# Altium schematic symbol library Esquemas.SchLib: 37 symbols
Pins are listed as number, name and electrical type; pins without a type are passive.

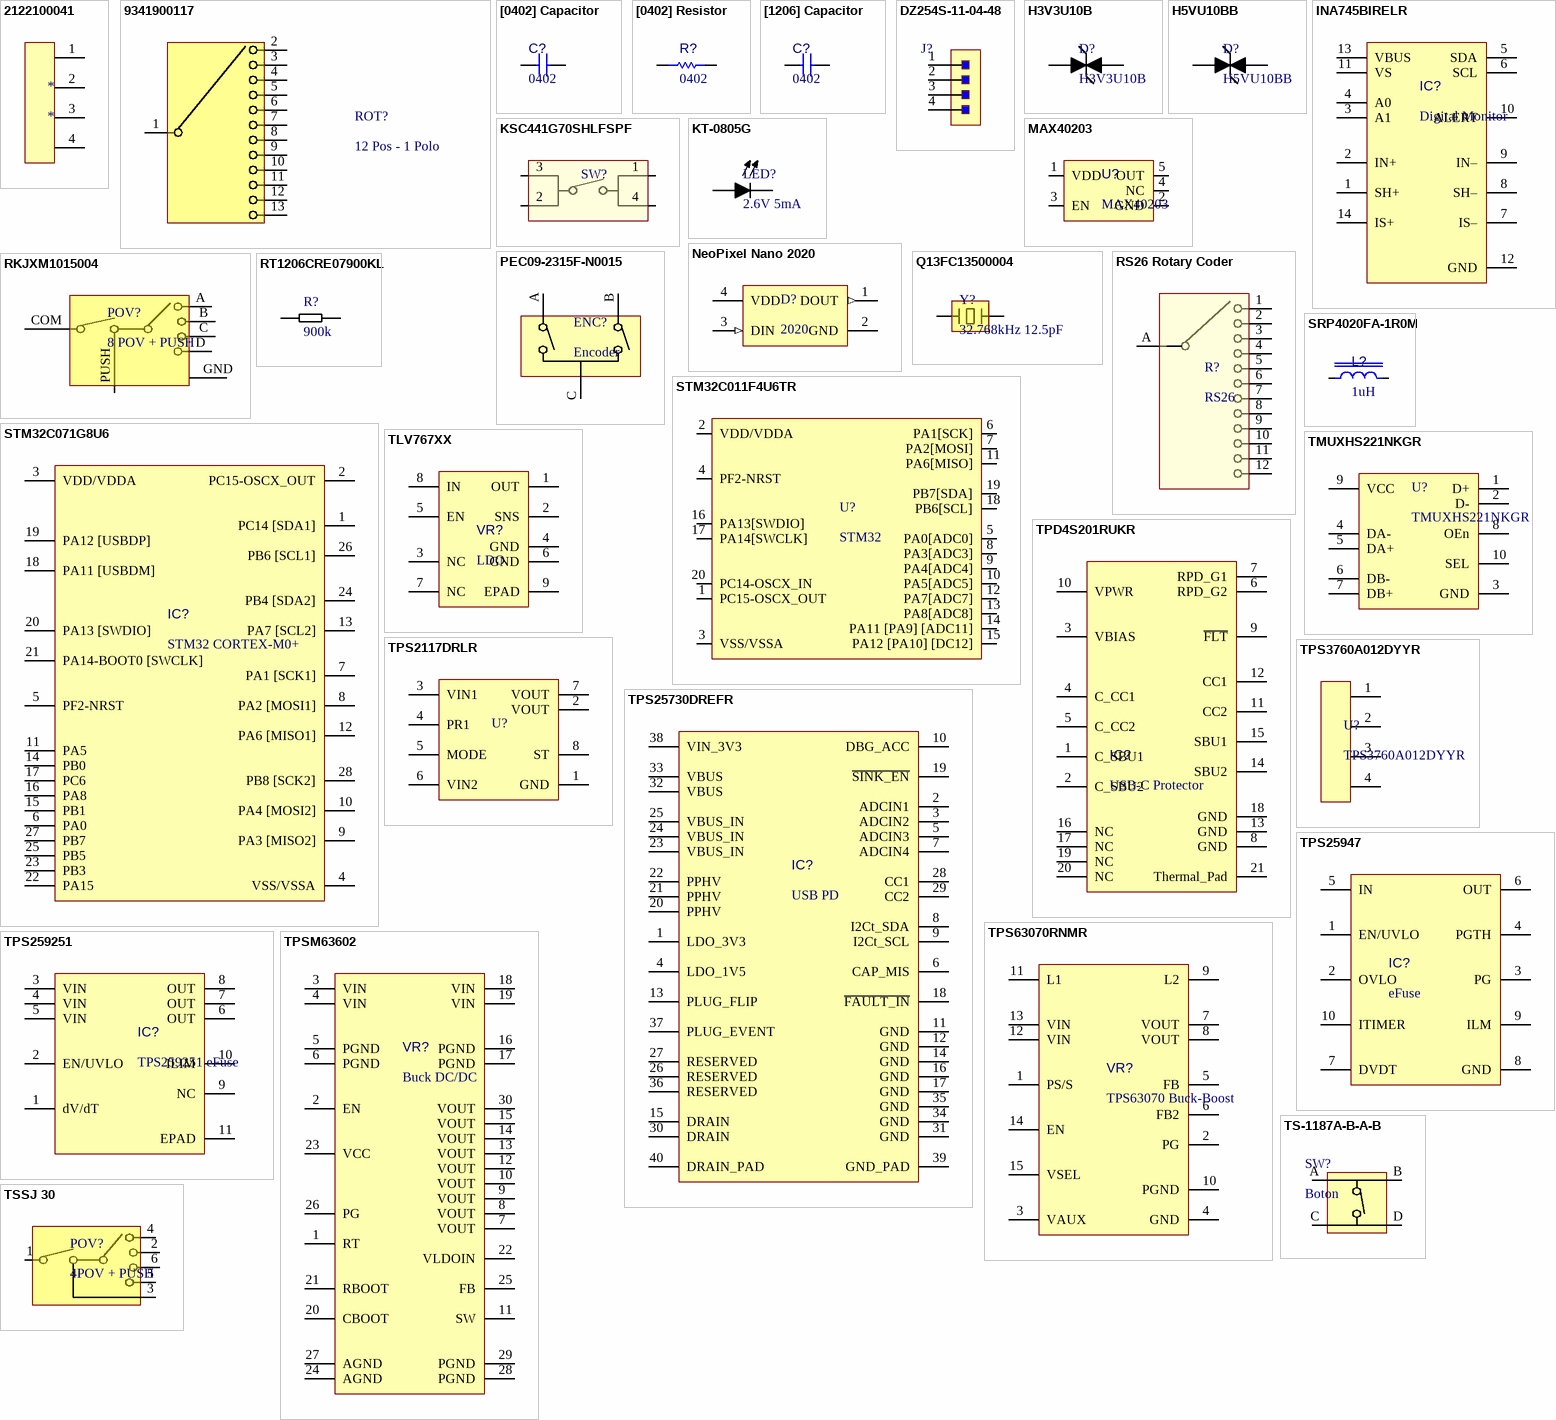
[diagram p0: symbols 2122100041 to TSSJ 30]

## 2122100041
designator *
footprint 2122100041 (Molex Connector)
pins: 1, 2, 3, 4

## 9341900117
designator ROT?, comment 12 Pos - 1 Polo
Interruptores rotativos 12 posiciones SP12T 130mA (CA/CC) 150 VCA Orificio pasante
footprint 9341900117 (Interruptores rotativos 12 posiciones SP12T 130mA (CA/CC) 150 VCA Orificio pasante)
pins: 1 5, 2 5, 3 5, 4 5, 5, 6 5, 7 5, 8 5, 9 5, 10 5, 11 5, 12 5, 13 5

## [0402] Capacitor
designator C?, comment 0402
[0402] SMD Capacitor
footprint [0402] SMD Capacitor (Chip Capacitor, 2-Leads, Body 1.00x0.50mm, IPC Low Density)
pins: 1 0, 2 0

## [0402] Resistor
designator R?, comment 0402
0402 SMD Resistor
footprint [0402] SMD Resistor (Chip Resistor, 2-Leads, Body 1.00x0.50mm, IPC Low Density)
pins: 1 0, 2 0

## [1206] Capacitor
designator C?, comment 0402
[0402] SMD Capacitor
footprint [1206] SMD Capacitor (Chip Capacitor, 2-Leads, Body 3.20x1.60mm, IPC Medium Density)
pins: 1 0, 2 0

## DZ254S-11-04-48
designator J?, comment Pin Header  (value not drawn)
1x4 (4P) Pin Header Male SMD
footprint DZ254S-11-04-48 (1x4 Pin Header)
pins: 1, 2, 3, 4

## H3V3U10B
designator D?
Bi-directional 3.3V Ultra Small Capacitance
footprint H3V3U10B (DFN1006-2L)
pins: 1 COM, 2

## H5VU10BB
designator D?
Bi-directional 5V Ultra Small Capacitance ESD
footprint H3V3U10B (DFN1006-2L)
pins: 1 COM, 2

## INA745BIRELR
designator IC?, comment Digital Monitor
Current Monitor Regulator High/Low-Side 35A 14-VQFN (5x3); Supplier 1: DigiKey; Supplier Part Number 1: 296-INA745BIRELRCT-ND
footprint INA745BIRELR (Current Monitor Regulator High/Low-Side 35A 14-VQFN (5x3))
pins: 1 SH+, 2 IN+, 3 A1, 4 A0, 5 SDA, 6 SCL, 7 IS–, 8 SH–, 9 IN–, 10 ALERT, 11 VS, 12 GND, 13 VBUS, 14 IS+

## KSC441G70SHLFSPF
designator SW?  (value not drawn)
Switch Tactile N.O. SPST Button 1VA 32VDC 50mA 4N Gull Wing SMD T/R; Manufacturer: C&K Components; Manufacturer Part Number: KSC441G70SHLFSPF; Supplier: DigiKey; Supplier Part Number: CKN11980CT-ND; RoHS: Compliant; Category: Tactile Switches; Stock: 1; Pricing: 1=1.04, 10=0.887, 25=0.8248, 100=0.7353, 250=0.6812, 500=0.64368 (USD); Contact Current Rating: 50mA; Operating Force: 4N; ComponentLink1URL: https://datasheet.octopart.com:443/KSC441G70SHLFSPF-C%26K-Components-datasheet-128529453.pdf?src-supplier=Electro+Sonic; ComponentLink1Description: https://datasheet.octopart.com:443/KSC441G70SHLFSPF-C%26K-Components-datasheet-128529453.pdf?src-supplier=Electro+Sonic; ComponentLink2URL: https://datasheet.octopart.com:443/KSC441G70SHLFSPF-C%26K-Components-datasheet-100062959.pdf?src-supplier=Future+Electronics; ComponentLink2Description: https://datasheet.octopart.com:443/KSC441G70SHLFSPF-C%26K-Components-datasheet-100062959.pdf?src-supplier=Future+Electronics; Supplier 1: DigiKey; Supplier Part Number 1: CKN11980CT-ND
footprint KSC441G 70SH LFS PF
pins: 1 0, 2 1, 3 2, 4 3

## KT-0805G
designator LED?, comment 2.6V 5mA
Emerald Green 525nm LED Indication - Discrete 2.6V~3.1V 0805
footprint KT-0805G (Emerald Green 525nm LED Indication - Discrete 2.6V~3.1V 0805)
pins: 1 16, 2 17

## MAX40203
designator U?
Supplier 1: Farnell; Supplier Part Number 1: 3225386
footprint MAX40203AUK+T (SOT23, 5-Leads, Body 2.90x2.80mm, Pitch 0.95mm, IPC Medium Density)
pins: 1 VDD, 2 GND, 3 EN, 4 NC, 5 OUT

## NeoPixel Nano 2020
designator D?, comment 2020
Adafruit Accessories NeoPixel Nano 2020 RGB LEDs WS2812B; Supplier 1: DigiKey; Supplier Part Number 1: 1528-4684-ND
footprint Adafruit 4684 (WS2812B)
pins: 1 DOUT (out), 2 GND, 3 DIN (in), 4 VDD

## PEC09-2315F-N0015
designator ENC?, comment Encoder
PEC09 PC Pin Quadrature (Incremental) 12 Mechanical Encoder 11.4mm 70C; Manufacturer: Bourns; Manufacturer Part Number: PEC09-2315F-N0015; Built in Switch: No; Detent: Yes; Number of Circuits: 1; Output Type: Incremental, Quadrature; Pulses per Revolution: 12; Supplier: DigiKey; Supplier Part Number: 118-PEC09-2315F-N0015-ND; RoHS: Compliant; Category: Encoders; Stock: 1221; Pricing: 1=2.47, 10=2.078, 25=1.9392, 50=1.8398, 100=1.745, 300=1.60387, 500=1.54196, 1000=1.46156, 5000=1.29003 (USD); Country of Origin: Taiwan; Encoder Type: Mechanical; Introduction Date: 2010-10-15; Lifecycle Status: Production; Max Operating Temperature: 70°C; Min Operating Temperature: -10°C; Mounting Technology: PCB, Panel, Through Hole; Orientation: Right Angle; REACH SVHC: Yes; Schedule B: 8543709655; Termination: PC Pin; Width: 9.7mm; ComponentLink1URL: https://datasheet.octopart.com:443/PEC09-2315F-N0015-Bourns-datasheet-179971531.pdf?src-supplier=IHS; ComponentLink1Description: https://datasheet.octopart.com:443/PEC09-2315F-N0015-Bourns-datasheet-179971531.pdf?src-supplier=IHS; ComponentLink2URL: https://datasheet.octopart.com:443/PEC09-2315F-N0015-Bourns-datasheet-67810299.pdf?src-supplier=JRH+Electronics; ComponentLink2Description: https://datasheet.octopart.com:443/PEC09-2315F-N0015-Bourns-datasheet-67810299.pdf?src-supplier=JRH+Electronics; ComponentLink3URL: https://datasheet.octopart.com:443/PEC09-2315F-N0015-Bourns-datasheet-177040331.pdf?src-supplier=Burklin+Elektronik; ComponentLink3Description: https://datasheet.octopart.com:443/PEC09-2315F-N0015-Bourns-datasheet-177040331.pdf?src-supplier=Burklin+Elektronik; ComponentLink4URL: https://datasheet.octopart.com/PEC09-2315F-N0015-Bourns-datasheet-10938969.pdf; ComponentLink4Description: https://datasheet.octopart.com/PEC09-2315F-N0015-Bourns-datasheet-10938969.pdf; ComponentLink5URL: http://sigma.octopart.com:80/conflict_mineral_statement/Bourns-company-36.pdf?src-supplier=Compliance+Statements; ComponentLink5Description: http://sigma.octopart.com:80/conflict_mineral_statement/Bourns-company-36.pdf?src-supplier=Compliance+Statements
footprint PEC09-2315F-N0015 (Codificador giratorio Mecánico 15 Cuadratura (por pasos) Ángulo recto)
pins: A COM, B COM, C COM

## Q13FC13500004
designator Y?, comment 32.768kHz 12.5pF
Passive Crystal Oscillators 32.768KHz ±20ppm 12.5pF 70kΩ SMD3215-2P SMT -40℃~+85℃; Manufacturer: Epson; Manufacturer Part Number: Q13FC13500004; Accuracy: 0.002%; Supplier: Farnell; Supplier Part Number: 1278036; RoHS: Compliant; Category: Crystals; Stock: 40157; Pricing: 1=1.64, 10=1.6, 50=1.57, 200=1.54, 500=1.51 (EUR); Case/Package: SMD/SMT; Frequency: 32.768kHz; Frequency Tolerance: 0.002%; Load Capacitance: 12.5pF; Max Operating Temperature: 85°C; Min Operating Temperature: -40°C; Mounting Technology: Surface Mount; Pins: 2; Packaging: Cut Tape; REACH SVHC: Unknown; ComponentLink1URL: https://datasheet.octopart.com:443/Q13FC13500004-Epson-datasheet-32025749.pdf?src-supplier=Newark; ComponentLink1Description: https://datasheet.octopart.com:443/Q13FC13500004-Epson-datasheet-32025749.pdf?src-supplier=Newark; ComponentLink2URL: https://datasheet.octopart.com:443/Q13FC13500004-Epson-datasheet-14705583.pdf?src-supplier=Newark; ComponentLink2Description: https://datasheet.octopart.com:443/Q13FC13500004-Epson-datasheet-14705583.pdf?src-supplier=Newark; ComponentLink3URL: https://datasheet.octopart.com:443/Q13FC13500004-Epson-datasheet-62043850.pdf?src-supplier=Farnell; ComponentLink3Description: https://datasheet.octopart.com:443/Q13FC13500004-Epson-datasheet-62043850.pdf?src-supplier=Farnell
footprint Q13FC13500004 (12.5pF 32.768kHz)
pins: 1 18, 2 19

## RKJXM1015004
designator POV?, comment 8 POV + PUSH
8-directional Stick Switch (with Center-push Function) RKJXM Series
footprint RKJXM1015004 (8-directional Stick Switch (with Center-push Function) RKJXM Series)
pins: A DIRA, B DIRB, C DIRC, COM, D DIRD, GND, PUSH

## RS26 Rotary Coder
designator R?, comment RS26
RS26 Rotary Type Band Switch Position Switch
footprint RS26
pins: 1 A, 2 A, 3 A, 4 A, 5 A, 6 A, 7 A, 8 A, 9 A, 10 A, 11 A, 12 A, A

## RT1206CRE07900KL
designator R?, comment 900k
900k Resistor 200V 1206 0.5%; Supplier 1: DigiKey; Supplier Part Number 1: 13-RT1206CRE07900KLCT-ND
footprint RES 1206 (SMD Resistor 1206)
pins: 1, 2

## SRP4020FA-1R0M
designator L?, comment 1uH
Inductor 1UH 11A 11.7 MOHM SMD
footprint SRP4020FA-1R0M (FIXED IND 1UH 11A 11.7 MOHM SMD)
pins: 1, 2

## STM32C011F4U6TR
designator U?, comment STM32
RISC Microcontroller, 32-Bit, FLASH, CORTEX-M4F CPU, 180MHz, CMOS, PBGA216; Manufacturer: STMicroelectronics; Manufacturer Part Number: STM32C011F4U6TR; ADC Channels (Resolution): 13-Ch 12-Bit; EEPROM Memory Size: 0B; Interface: I2C, I2S, SPI; Clock Frequency: 48MHz; Max Supply Current: 4.1mA; Max Supply Voltage: 3.6V; Min Supply Voltage: 3V; Number of I/Os: 2; Number of Interrupts: 18; Number of Timers/Counters: 9; Peripherals: POR, PWM; RAM Size: 6kB; Supplier: RS; Supplier Part Number: 2615536P; RoHS: Compliant; Category: Microcontrollers; Stock: 2852; Pricing: 2=0.73 (EUR); China RoHS: Compliant; Country of Origin: Mainland China, Philippines, Taiwan; Export Control Classification Number (ECCN) Code: 3A991.A.2; Height - Seated (Max): 600µm; Harmonized Tariff Schedule (HTS) Code: 8542.31.00.25; Introduction Date: 2023-01-06; Length: 3mm; Lifecycle Status: Production; Max Operating Temperature: 85°C; Memory Format: FLASH; Min Operating Temperature: -40°C; Number of Terminals: 20; Operating Supply Voltage: 3V; REACH SVHC: Yes; Terminal Pitch: 500µm; Width: 3mm; ComponentLink1URL: https://datasheet.octopart.com:443/STM32C011F4U6TR-STMicroelectronics-datasheet-175903386.pdf?src-supplier=Future+Electronics; ComponentLink1Description: https://datasheet.octopart.com:443/STM32C011F4U6TR-STMicroelectronics-datasheet-175903386.pdf?src-supplier=Future+Electronics; Supplier 1: RS; Supplier Part Number 1: 2615536P
footprint STM32C011F4U6TR (PQFN, 20-Leads, Body 3.00x3.00mm, Pitch 0.50mm, IPC Medium Density)
pins: 1 PC15-OSCX_OUT, 2 VDD/VDDA (power), 3 VSS/VSSA (power), 4 PF2-NRST, 5 PA0[ADC0], 6 PA1[SCK], 7 PA2[MOSI], 8 PA3[ADC3], 9 PA4[ADC4], 10 PA5[ADC5], 11 PA6[MISO], 12 PA7[ADC7], 13 PA8[ADC8], 14 PA11 [PA9] [ADC11], 15 PA12 [PA10] [DC12], 16 PA13[SWDIO], 17 PA14[SWCLK], 18 PB6[SCL], 19 PB7[SDA], 20 PC14-OSCX_IN

## STM32C071G8U6
designator IC?, comment STM32 CORTEX-M0+
MAINSTREAM ARM CORTEX-M0+ MCU WI; Supplier 1: Arrow Electronics; Supplier Part Number 1: STM32C071G8U6
footprint STM32C071G8U6 (ARM® Cortex®-M0+ STM32C0 Microcontroller IC 32-Bit 48MHz 64KB (64K x 8) FLASH 28-UFQFPN (4x4))
pins: 1 PC14 [SDA1], 2 PC15-OSCX_OUT, 3 VDD/VDDA, 4 VSS/VSSA, 5 PF2-NRST, 6 PA0, 7 PA1 [SCK1], 8 PA2 [MOSI1], 9 PA3 [MISO2], 10 PA4 [MOSI2], 11 PA5, 12 PA6 [MISO1], 13 PA7 [SCL2], 14 PB0, 15 PB1, 16 PA8, 17 PC6, 18 PA11 [USBDM], 19 PA12 [USBDP], 20 PA13 [SWDIO], 21 PA14-BOOT0 [SWCLK], 22 PA15, 23 PB3, 24 PB4 [SDA2], 25 PB5, 26 PB6 [SCL1], 27 PB7, 28 PB8 [SCK2]

## TLV767XX
designator VR?, comment LDO
LDO IC REG LINEAR 3.3V 1A 8-HVSSOP
footprint TLV767
pins: 1 OUT, 2 SNS, 3 NC, 4 GND, 5 EN, 6 GND, 7 NC, 8 IN, 9 EPAD

## TMUXHS221NKGR
designator U?
USB 2.0 480-Mbps 2: 1 multiplexer and 1: 2 demultiplexer 10-UQFN -40 to 125; Manufacturer: Texas Instruments; Manufacturer Lifecycle Status: ACTIVE; Number of Channels: 2; Supplier: DigiKey; Supplier Part Number: 296-TMUXHS221NKGRCT-ND; Manufacturer Part Number: TMUXHS221NKGR; RoHS: Compliant; Category: Analog Switches and Multiplexers; Stock: 8358; Pricing: 1=0.69, 10=0.487, 25=0.4376, 100=0.3825, 250=0.35636, 500=0.34058, 1000=0.33507 (USD); Height: 0m; Length: 1.8mm; Lifecycle Status: Production; Pins: 10; Thickness: 450µm; Width: 1.4mm; ComponentLink1URL: https://octopart.com:443/opatz8j6/c1?t=yy8f16U1RaVyJzevDuJU09x-mYvQXO8Kqrm6JcMtgPoHzo19fH86UQI7Lu4Y-5OPzkEVgW5cZuFBPsxpb0JXvFbkdOwegFESpmsH6cXXLsil-TYfu3GKVPvJba9-r6E5IpqDcbrwiT7I5C7fcykZ2T1PNpaMFCK-tbBFV71T04D0HUJT6Ry0ebW3kBGnA28mmpzQCtRO5esTna_ClKBwBHeNovGdvj0CHUzZAifOj_by6hkR-EhHDqyHfgvsuGFjjxRECSGQ9ZOlxtYU5PIugKIjId5iaRYOt35eo4CWUAyPXSbXU95PzLI5Up0BkHu1xGqqwLBBaBlrE_jS0d4IFlhsonT6F6AzgfyzIqCfRZGoKyxcJaeJkiQ3Ijiv_VHKsRnbf89GHNA&src-supplier=Texas+Instruments; ComponentLink1Description: https://octopart.com:443/opatz8j6/c1?t=yy8f16U1RaVyJzevDuJU09x-mYvQXO8Kqrm6JcMtgPoHzo19fH86UQI7Lu4Y-5OPzkEVgW5cZuFBPsxpb0JXvFbkdOwegFESpmsH6cXXLsil-TYfu3GKVPvJba9-r6E5IpqDcbrwiT7I5C7fcykZ2T1PNpaMFCK-tbBFV71T04D0HUJT6Ry0ebW3kBGnA28mmpzQCtRO5esTna_ClKBwBHeNovGdvj0CHUzZAifOj_by6hkR-EhHDqyHfgvsuGFjjxRECSGQ9ZOlxtYU5PIugKIjId5iaRYOt35eo4CWUAyPXSbXU95PzLI5Up0BkHu1xGqqwLBBaBlrE_jS0d4IFlhsonT6F6AzgfyzIqCfRZGoKyxcJaeJkiQ3Ijiv_VHKsRnbf89GHNA&src-supplier=Texas+Instruments; ComponentLink2URL: http://sigma.octopart.com:80/reach_statement/Texas-Instruments-company-64.pdf?src-supplier=Compliance+Statements; ComponentLink2Description: http://sigma.octopart.com:80/reach_statement/Texas-Instruments-company-64.pdf?src-supplier=Compliance+Statements; ComponentLink3URL: http://sigma.octopart.com:80/conflict_mineral_statement/Texas-Instruments-company-63.pdf?src-supplier=Compliance+Statements; ComponentLink3Description: http://sigma.octopart.com:80/conflict_mineral_statement/Texas-Instruments-company-63.pdf?src-supplier=Compliance+Statements; Supplier 1: DigiKey; Supplier Part Number 1: 296-TMUXHS221NKGRCT-ND
footprint TMUXHS221NKGR
pins: 1 D+, 2 D-, 3 GND, 4 DA-, 5 DA+, 6 DB-, 7 DB+, 8 OEn, 9 VCC, 10 SEL

## TPD4S201RUKR
designator IC?, comment USB-C Protector
Overvoltage/Surge Protection IC Internal Switch 20-WQFN (3x3); Supplier 1: DigiKey; Supplier Part Number 1: 296-TPD4S201RUKRCT-ND
footprint TPD4S201RUKR (WQFN - 0.8 mm max height)
pins: 1 C_SBU1, 2 C_SBU2, 3 VBIAS, 4 C_CC1, 5 C_CC2, 6 RPD_G2, 7 RPD_G1, 8 GND, 9 ~{FLT}, 10 VPWR, 11 CC2, 12 CC1, 13 GND, 14 SBU2, 15 SBU1, 16 NC, 17 NC, 18 GND, 19 NC, 20 NC, 21 Thermal_Pad

## TPS2117DRLR
designator U?  (value not drawn)
Power Switch ICs - Power Distribution 1.6-V to 5.5-V 20-m ? 4-A low IQ power; Supplier 1: DigiKey; Supplier Part Number 1: 296-TPS2117DRLRCT-ND
footprint TPS2117DRLR
pins: 1 GND, 2 VOUT, 3 VIN1, 4 PR1, 5 MODE, 6 VIN2, 7 VOUT, 8 ST

## TPS3760A012DYYR
designator U?
65-V overvoltage or undervoltage supervisor with sense, ultra-low quiescent current and delay 14-SOT-23-THIN -40 to 125; Manufacturer: Texas Instruments; Manufacturer Lifecycle Status: ACTIVE; Number of Channels: 1; Supplier: DigiKey; Supplier Part Number: 296-TPS3760A012DYYRCT-ND; Manufacturer Part Number: TPS3760A012DYYR; RoHS: Compliant; Category: Voltage Supervisors; Stock: 2540; Pricing: 1=2.04, 10=1.505, 25=1.372, 100=1.2249, 250=1.15488, 500=1.11264, 1000=1.07789 (USD); Height: 1.1mm; Length: 4.2mm; Lifecycle Status: Production; Pins: 14; Thickness: 950µm; Width: 2mm; ComponentLink1URL: https://sigma.octopart.com:443/182665539/technical_drawing/Texas-Instruments-TPS3760A012DYYR.pdf?src-supplier=Texas+Instruments; ComponentLink1Description: https://sigma.octopart.com:443/182665539/technical_drawing/Texas-Instruments-TPS3760A012DYYR.pdf?src-supplier=Texas+Instruments; ComponentLink2URL: https://octopart.com:443/opatz8j6/c1?t=bBFzi-bAgYeeIbIGZY4bYo_XbKFLrftSZeSbSotmTGgeyb1wDWlOowMhYIBvvx_NPYX33-vt174hjkc8pfZzGNZGzFTq0YZyBSTQiA9lvi1W1HQ8nU6AmnP_TUSFLSTahk-tJzU8CdGWSkZK8qp8JmsNy5ER1-k-XC_2OPCMbioe_4G39Qd6I0xxDegcqopCW8QpALGavVkLc82cd8sYUA-iojPAUqVw9w0rlJqrUIe6-T8I7E8WsKTax3oIpMJvJ5fyacIK7iiYxL8B1qJRHrXurpGsB0OkwsYmBfFN4tStetN7tc0ldO4LktvQnzqEcQLX9ULkaLtYPC4yhwxv331PFsCLzXqIEQLZ4t7P-cKiw5Xsx_ZWYPfYUWK1o67pue7ZZrUx&src-supplier=Texas+Instruments; ComponentLink2Description: https://octopart.com:443/opatz8j6/c1?t=bBFzi-bAgYeeIbIGZY4bYo_XbKFLrftSZeSbSotmTGgeyb1wDWlOowMhYIBvvx_NPYX33-vt174hjkc8pfZzGNZGzFTq0YZyBSTQiA9lvi1W1HQ8nU6AmnP_TUSFLSTahk-tJzU8CdGWSkZK8qp8JmsNy5ER1-k-XC_2OPCMbioe_4G39Qd6I0xxDegcqopCW8QpALGavVkLc82cd8sYUA-iojPAUqVw9w0rlJqrUIe6-T8I7E8WsKTax3oIpMJvJ5fyacIK7iiYxL8B1qJRHrXurpGsB0OkwsYmBfFN4tStetN7tc0ldO4LktvQnzqEcQLX9ULkaLtYPC4yhwxv331PFsCLzXqIEQLZ4t7P-cKiw5Xsx_ZWYPfYUWK1o67pue7ZZrUx&src-supplier=Texas+Instruments; ComponentLink3URL: https://sigma.octopart.com:443/178868997/technical_drawing/Texas-Instruments-TPS3760A012DYYR.pdf?src-supplier=Texas+Instruments; ComponentLink3Description: https://sigma.octopart.com:443/178868997/technical_drawing/Texas-Instruments-TPS3760A012DYYR.pdf?src-supplier=Texas+Instruments; ComponentLink4URL: https://sigma.octopart.com:443/155892991/technical_drawing/Texas-Instruments-TPS3760A012DYYR.pdf?src-supplier=Texas+Instruments; ComponentLink4Description: https://sigma.octopart.com:443/155892991/technical_drawing/Texas-Instruments-TPS3760A012DYYR.pdf?src-supplier=Texas+Instruments; ComponentLink5URL: https://datasheet.octopart.com:443/TPS3760A012DYYR-Texas-Instruments-datasheet-165812064.pdf?src-supplier=Augswan; ComponentLink5Description: https://datasheet.octopart.com:443/TPS3760A012DYYR-Texas-Instruments-datasheet-165812064.pdf?src-supplier=Augswan; ComponentLink6URL: http://sigma.octopart.com:80/reach_statement/Texas-Instruments-company-64.pdf?src-supplier=Compliance+Statements; ComponentLink6Description: http://sigma.octopart.com:80/reach_statement/Texas-Instruments-company-64.pdf?src-supplier=Compliance+Statements; ComponentLink7URL: http://sigma.octopart.com:80/conflict_mineral_statement/Texas-Instruments-company-63.pdf?src-supplier=Compliance+Statements; ComponentLink7Description: http://sigma.octopart.com:80/conflict_mineral_statement/Texas-Instruments-company-63.pdf?src-supplier=Compliance+Statements; Supplier 1: DigiKey; Supplier Part Number 1: 296-TPS3760A012DYYRCT-ND
pins: 1, 2, 3, 4

## TPS25730DREFR
designator IC?, comment USB PD
USB, Type-C Controller PMIC 38-WQFN (4x6); Supplier 1: DigiKey; Supplier Part Number 1: 296-TPS25730DREFRCT-ND
footprint TPS25730DREFR (USB, Type-C Controller PMIC 38-WQFN (4x6))
pins: 1 LDO_3V3, 2 ADCIN1, 3 ADCIN2, 4 LDO_1V5, 5 ADCIN3, 6 CAP_MIS, 7 ADCIN4, 8 I2Ct_SDA, 9 I2Ct_SCL, 10 DBG_ACC, 11 GND, 12 GND, 13 PLUG_FLIP, 14 GND, 15 DRAIN, 16 GND, 17 GND, 18 ~{FAULT_IN}, 19 ~{SINK_EN}, 20 PPHV, 21 PPHV, 22 PPHV, 23 VBUS_IN, 24 VBUS_IN, 25 VBUS_IN, 26 RESERVED, 27 RESERVED, 28 CC1, 29 CC2, 30 DRAIN, 31 GND, 32 VBUS, 33 VBUS, 34 GND, 35 GND, 36 RESERVED, 37 PLUG_EVENT, 38 VIN_3V3, 39 GND_PAD, 40 DRAIN_PAD

## TPS25947
designator IC?, comment eFuse
eFuse de 5.5 A, 2.7 V a 23 V, 28 mΩ, con protección de polaridad inversa integrada; Supplier 1: DigiKey; Supplier Part Number 1: 296-TPS259472ARPWRCT-ND
footprint TPS25947
pins: 1 EN/UVLO, 2 OVLO, 3 PG, 4 PGTH, 5 IN, 6 OUT, 7 DVDT, 8 GND, 9 ILM, 10 ITIMER

## TPS63070RNMR
designator VR?, comment TPS63070 Buck-Boost
IC REG BUCK BOOST ADJ 2A 15VQFN; Supplier 1: DigiKey; Supplier Part Number 1: 296-44874-1-ND
footprint TPS63070 (TPS63070RNMR)
pins: 1 PS/S, 2 PG, 3 VAUX, 4 GND, 5 FB, 6 FB2, 7 VOUT, 8 VOUT, 9 L2, 10 PGND, 11 L1, 12 VIN, 13 VIN, 14 EN, 15 VSEL

## TPS259251
designator IC?, comment TPS259251 eFuse
eFuse 5V/12V Protection Switches; Supplier 1: DigiKey; Supplier Part Number 1: 296-47233-1-ND
footprint TPS259251
pins: 1 dV/dT, 2 EN/UVLO, 3 VIN, 4 VIN, 5 VIN, 6 OUT, 7 OUT, 8 OUT, 9 NC, 10 ILIM, 11 EPAD

## TPSM63602
designator VR?, comment Buck DC/DC
Non-Isolated PoL Module DC DC Converter 1 Output 3.3V 2A 3V - 36V Input
footprint TPSM63602_1
pins: 1 RT, 2 EN, 3 VIN, 4 VIN, 5 PGND, 6 PGND, 7 VOUT, 8 VOUT, 9 VOUT, 10 VOUT, 11 SW, 12 VOUT, 13 VOUT, 14 VOUT, 15 VOUT, 16 PGND, 17 PGND, 18 VIN, 19 VIN, 20 CBOOT, 21 RBOOT, 22 VLDOIN, 23 VCC, 24 AGND, 25 FB, 26 PG, 27 AGND, 28 PGND, 29 PGND, 30 VOUT

## TS-1187A-B-A-B
designator SW?, comment Boton
Boton SMD
footprint TS-1187A-B-A-B (Boton SMD)
pins: A, B, C, D

## TSSJ 30
designator POV?, comment 4POV + PUSH
SWITCH NAVIGATION 20MA 15V
footprint TSSJ 30 (SWITCH NAVIGATION 20MA 15V)
pins: 1 COM, 2 DIRB, 3 4, 4 DIRA, 5 DIRD, 6 DIRC

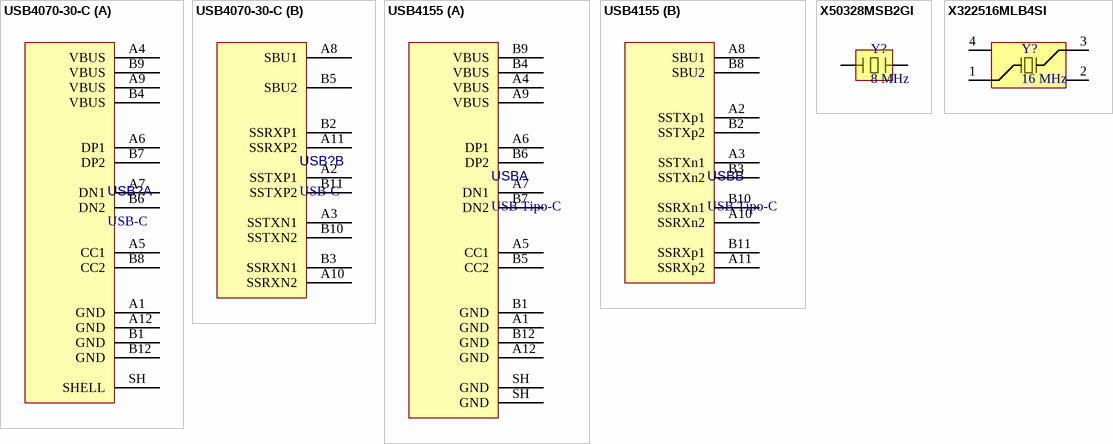
[diagram p1: symbols USB4070-30-C to X322516MLB4SI]

## USB4070-30-C
designator USB?, comment USB-C
USB-C (USB TYPE-C) USB 3.2 Gen 2 (USB 3.1 Gen 2, Superspeed + (USB 3.1)) Receptacle Connector 24 Position Surface Mount, Through Hole; Supplier 1: Future Electronics; Supplier Part Number 1: USB4070-30-C
footprint USB4070-30-C
part A pins: A1 GND, A4 VBUS, A5 CC1, A6 DP1, A7 DN1, A9 VBUS, A12 GND, B1 GND, B4 VBUS, B6 DN2, B7 DP2, B8 CC2, B9 VBUS, B12 GND, SH SHELL
part B pins: A2 SSTXP1, A3 SSTXN1, A8 SBU1, A10 SSRXN2, A11 SSRXP2, B2 SSRXP1, B3 SSRXN1, B5 SBU2, B10 SSTXN2, B11 SSTXP2

## USB4155
designator USB, comment USB Tipo-C
USB TYPE C, PLUG, SMT , G/F, RIG
footprint USB4155 (USB Tipo-C Plug 24 Contactos)
part A pins: A1 GND, A4 VBUS, A5 CC1, A6 DP1, A7 DN1, A9 VBUS, A12 GND, B1 GND, B4 VBUS, B5 CC2, B6 DP2, B7 DN2, B9 VBUS, B12 GND, SH GND, SH GND
part B pins: A2 SSTXp1, A3 SSTXn1, A8 SBU1, A10 SSRXn2, A11 SSRXp2, B2 SSTXp2, B3 SSTXn2, B8 SBU2, B10 SSRXn1, B11 SSRXp1

## X50328MSB2GI
designator Y?, comment 8 MHz
Passive Crystal Oscillators 8MHz ±10ppm 20pF 80Ω SMD5032-2P SMT -40℃~+85℃; Manufacturer: YXC; Manufacturer Part Number: X50328MSB2GI; Supplier: LCSC; Supplier Part Number: C115962; Category: Uncategorized; Stock: 395105; Pricing: 5=0.2061, 50=0.1503, 150=0.1231, 1000=0.1133, 2000=0.1066, 5000=0.1026 (USD)
footprint X50328MSB2GI (-40℃~+85℃ 20pF 8MHz Crystal Oscillator ±10ppm ±20ppm SMD5032-2P Crystals ROHS)
pins: 1 18, 2 19

## X322516MLB4SI
designator Y?, comment 16 MHz
16MHz Surface Mount Crystal 9pF ±10ppm ±20ppm SMD3225-4P Crystals ROHS; Manufacturer: YXC; Manufacturer Part Number: X322516MLB4SI; Supplier: LCSC; Supplier Part Number: C13738; Category: Uncategorized; Stock: 391500; Pricing: 10=0.0679, 100=0.0533, 300=0.0458, 3000=0.0377, 6000=0.0355, 9000=0.034 (USD)
footprint X322516MLB4SI (16 MHz Crystal Quartz)
pins: 1 IN, 2 IN, 3 OUT, 4 IN